# EAGLE library part STM32F4XX_64 (library stm32)
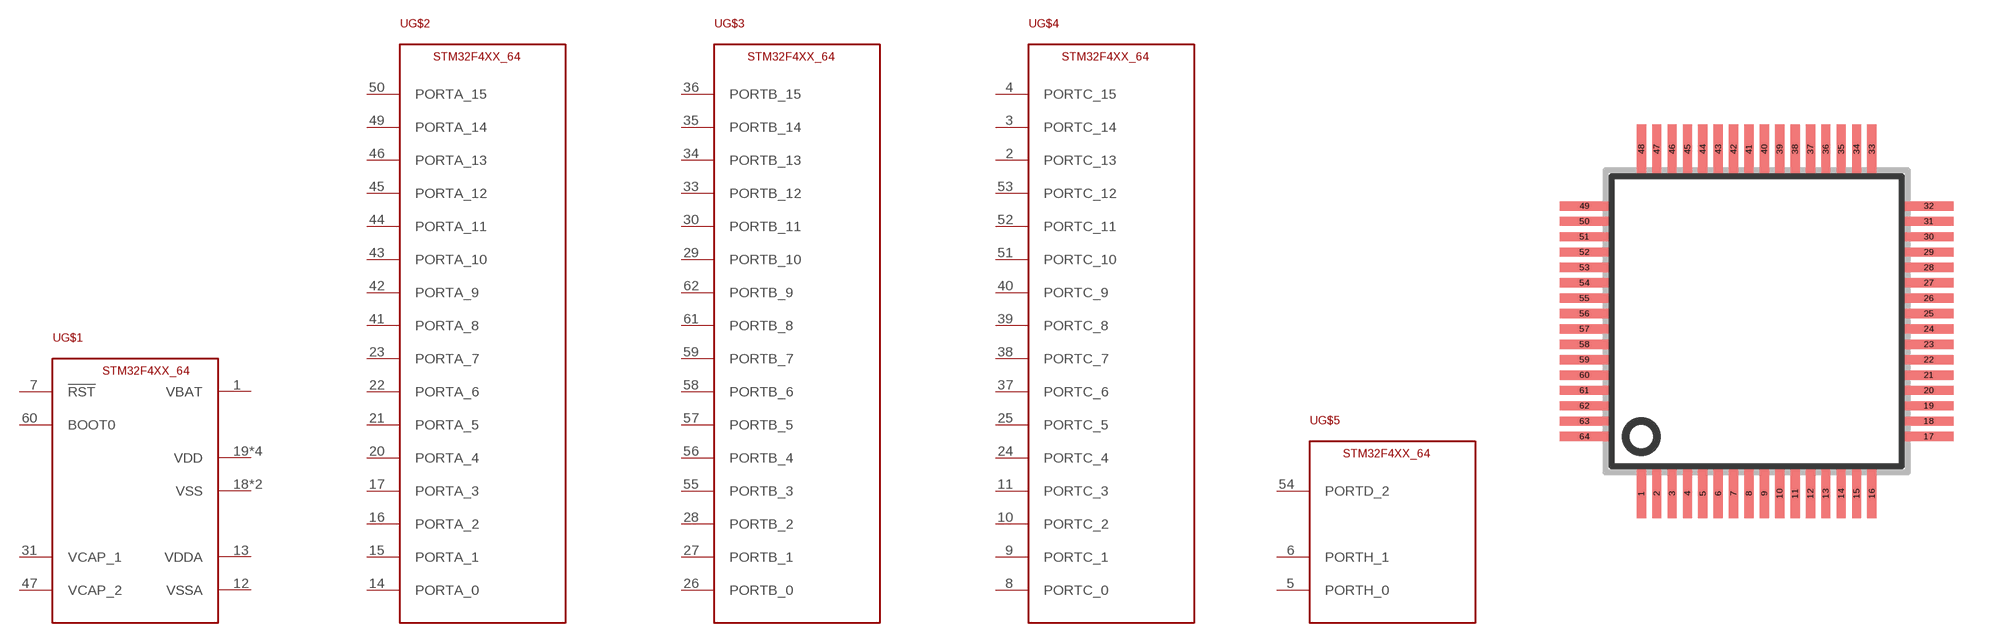
[diagram p0: symbol with the pads of TQFP64; footprint TQFP64]

Designator prefix -; gates G$1=STM32F4XX_64_SYS G$2=STM32F4XX_PA G$3=STM32F4XX_PB G$4=STM32F4XX_PC G$5=STM32F4XX_64_PDH

## STM32F4XX_64  [TQFP64]
1  G$1:VBAT
2  G$4:PORTC_13
3  G$4:PORTC_14
4  G$4:PORTC_15
5  G$5:PORTH_0
6  G$5:PORTH_1
7  G$1:!RST
8  G$4:PORTC_0
9  G$4:PORTC_1
10  G$4:PORTC_2
11  G$4:PORTC_3
12  G$1:VSSA
13  G$1:VDDA
14  G$2:PORTA_0
15  G$2:PORTA_1
16  G$2:PORTA_2
17  G$2:PORTA_3
18  G$1:VSS
19  G$1:VDD
20  G$2:PORTA_4
21  G$2:PORTA_5
22  G$2:PORTA_6
23  G$2:PORTA_7
24  G$4:PORTC_4
25  G$4:PORTC_5
26  G$3:PORTB_0
27  G$3:PORTB_1
28  G$3:PORTB_2
29  G$3:PORTB_10
30  G$3:PORTB_11
31  G$1:VCAP_1
32  G$1:VDD
33  G$3:PORTB_12
34  G$3:PORTB_13
35  G$3:PORTB_14
36  G$3:PORTB_15
37  G$4:PORTC_6
38  G$4:PORTC_7
39  G$4:PORTC_8
40  G$4:PORTC_9
41  G$2:PORTA_8
42  G$2:PORTA_9
43  G$2:PORTA_10
44  G$2:PORTA_11
45  G$2:PORTA_12
46  G$2:PORTA_13
47  G$1:VCAP_2
48  G$1:VDD
49  G$2:PORTA_14
50  G$2:PORTA_15
51  G$4:PORTC_10
52  G$4:PORTC_11
53  G$4:PORTC_12
54  G$5:PORTD_2
55  G$3:PORTB_3
56  G$3:PORTB_4
57  G$3:PORTB_5
58  G$3:PORTB_6
59  G$3:PORTB_7
60  G$1:BOOT0
61  G$3:PORTB_8
62  G$3:PORTB_9
63  G$1:VSS
64  G$1:VDD

## Footprint TQFP64 (pad centres in mm)
smd 0.3 x 1.6: 1 -3.75,-5.6; 2 -3.25,-5.6; 3 -2.75,-5.6; 4 -2.25,-5.6; 5 -1.75,-5.6; 6 -1.25,-5.6; 7 -0.75,-5.6; 8 -0.25,-5.6; 9 0.25,-5.6; 10 0.75,-5.6; 11 1.25,-5.6; 12 1.75,-5.6; 13 2.25,-5.6; 14 2.75,-5.6; 15 3.25,-5.6; 16 3.75,-5.6; 33 3.75,5.6; 34 3.25,5.6; 35 2.75,5.6; 36 2.25,5.6; 37 1.75,5.6; 38 1.25,5.6; 39 0.75,5.6; 40 0.25,5.6; 41 -0.25,5.6; 42 -0.75,5.6; 43 -1.25,5.6; 44 -1.75,5.6; 45 -2.25,5.6; 46 -2.75,5.6; 47 -3.25,5.6; 48 -3.75,5.6
smd 1.6 x 0.3: 17 5.6,-3.75; 18 5.6,-3.25; 19 5.6,-2.75; 20 5.6,-2.25; 21 5.6,-1.75; 22 5.6,-1.25; 23 5.6,-0.75; 24 5.6,-0.25; 25 5.6,0.25; 26 5.6,0.75; 27 5.6,1.25; 28 5.6,1.75; 29 5.6,2.25; 30 5.6,2.75; 31 5.6,3.25; 32 5.6,3.75; 49 -5.6,3.75; 50 -5.6,3.25; 51 -5.6,2.75; 52 -5.6,2.25; 53 -5.6,1.75; 54 -5.6,1.25; 55 -5.6,0.75; 56 -5.6,0.25; 57 -5.6,-0.25; 58 -5.6,-0.75; 59 -5.6,-1.25; 60 -5.6,-1.75; 61 -5.6,-2.25; 62 -5.6,-2.75; 63 -5.6,-3.25; 64 -5.6,-3.75